# Altium schematic symbol library 68710814022.Schlib: 1 symbol
Pins are listed as number, name and electrical type; pins without a type are passive.

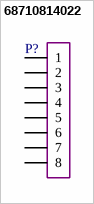
[diagram p0: symbol 68710814022]

## 68710814022
designator P?  (value not drawn)
WR-FPC 0.50mm SMT ZIF Horizontal Top Contact
pins: 1, 2, 3, 4, 5, 6, 7, 8